# EAGLE library part DA14583 (library Deegou_IC)
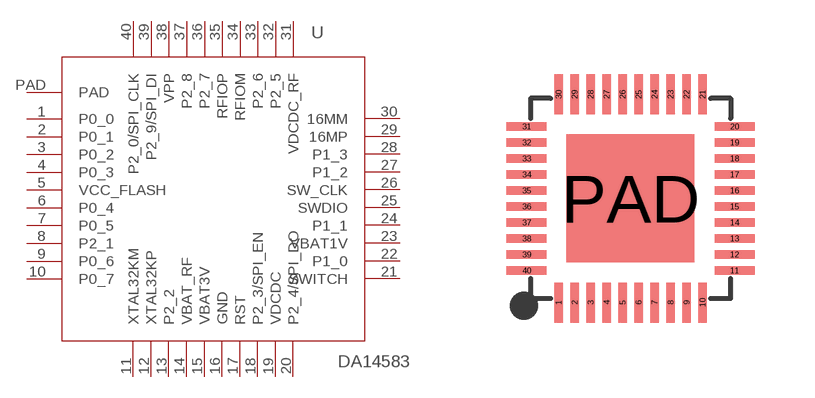
[diagram p133: symbol with the pads of QFN40-5X5; footprint QFN40-5X5]

Designator prefix U

## DA14583  [QFN40-5X5]
1  P0_0
2  P0_1
3  P0_2
4  P0_3
5  VCC_FLASH
6  P0_4
7  P0_5
8  P2_1
9  P0_6
10  P0_7
11  XTAL32KM
12  XTAL32KP
13  P2_2
14  VBAT_RF
15  VBAT3V
16  GND
17  RST
18  P2_3/SPI_EN
19  VDCDC
20  P2_4/SPI_DO
21  SWITCH
22  P1_0
23  VBAT1V
24  P1_1
25  SWDIO
26  SW_CLK
27  P1_2
28  P1_3
29  16MP
30  16MM
31  VDCDC_RF
32  P2_5
33  P2_6
34  RFIOM
35  RFIOP
36  P2_7
37  P2_8
38  VPP
39  P2_9/SPI_DI
40  P2_0/SPI_CLK
PAD  PAD

## Footprint QFN40-5X5 (pad centres in mm)
smd 0.22 x 1: 1 -1.8,-2.6; 2 -1.4,-2.6; 3 -1,-2.6; 4 -0.6,-2.6; 5 -0.2,-2.6; 6 0.2,-2.6; 7 0.6,-2.6; 8 1,-2.6; 9 1.4,-2.6; 10 1.8,-2.6; 21 1.8,2.6; 22 1.4,2.6; 23 1,2.6; 24 0.6,2.6; 25 0.2,2.6; 26 -0.2,2.6; 27 -0.6,2.6; 28 -1,2.6; 29 -1.4,2.6; 30 -1.8,2.6
smd 1 x 0.22: 11 2.6,-1.8; 12 2.6,-1.4; 13 2.6,-1; 14 2.6,-0.6; 15 2.6,-0.2; 16 2.6,0.2; 17 2.6,0.6; 18 2.6,1; 19 2.6,1.4; 20 2.6,1.8; 31 -2.6,1.8; 32 -2.6,1.4; 33 -2.6,1; 34 -2.6,0.6; 35 -2.6,0.2; 36 -2.6,-0.2; 37 -2.6,-0.6; 38 -2.6,-1; 39 -2.6,-1.4; 40 -2.6,-1.8
smd 3.2 x 3.2: PAD 0,0